# EAGLE library part RAZOR_IMU (library Razor_IMU)
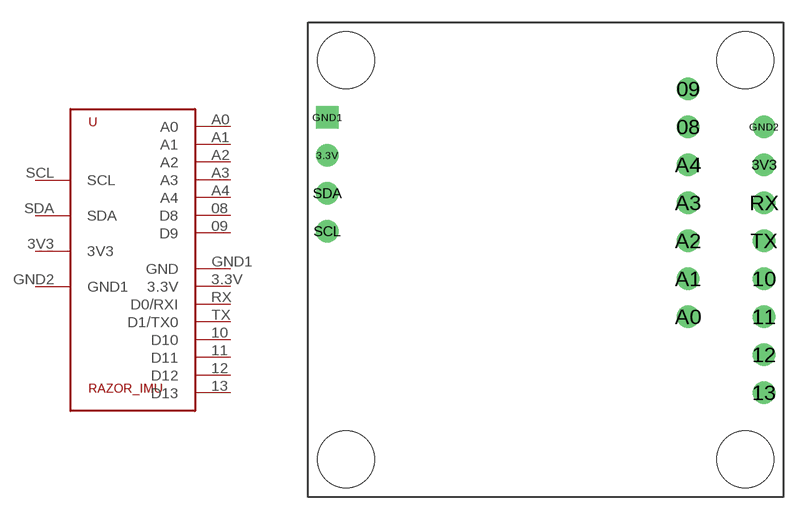
[diagram p0: symbol with the pads of RAZOR_IMU; footprint RAZOR_IMU]

Designator prefix -

## RAZOR_IMU  [RAZOR_IMU]
3.3V  3.3V
3V3  3V3
08  D8
09  D9
10  D10
11  D11
12  D12
13  D13
A0  A0
A1  A1
A2  A2
A3  A3
A4  A4
GND1  GND
GND2  GND1
RX  D0/RXI
SCL  SCL
SDA  SDA
TX  D1/TX0

## Footprint RAZOR_IMU (pad centres in mm)
drill 1.016: 3.3V 1.27,22.86; 3V3 30.48,22.225; 08 25.4,24.765; 09 25.4,27.305; 10 30.48,14.605; 11 30.48,12.065; 12 30.48,9.525; 13 30.48,6.985; A0 25.4,12.065; A1 25.4,14.605; A2 25.4,17.145; A3 25.4,19.685; A4 25.4,22.225; GND2 30.48,24.765; RX 30.48,19.685; SCL 1.27,17.78; SDA 1.27,20.32; TX 30.48,17.145
drill 1.016 square: GND1 1.27,25.4
hole 3.81 at 2.54,29.21
hole 3.81 at 2.54,2.54
hole 3.81 at 29.21,2.54
hole 3.81 at 29.21,29.21